# Altium footprint library 2pines.PcbLib: 1 footprints
Each footprint in its own frame and in the unit in brackets; x right, y up, seen from the top. Pads: shape width x height; smd on the part's side, far side on the other; paste and mask are expansions set on the pad; w line width, h text height; cw(c..) or ccw(c..) is an arc to the next point about the centre after c.
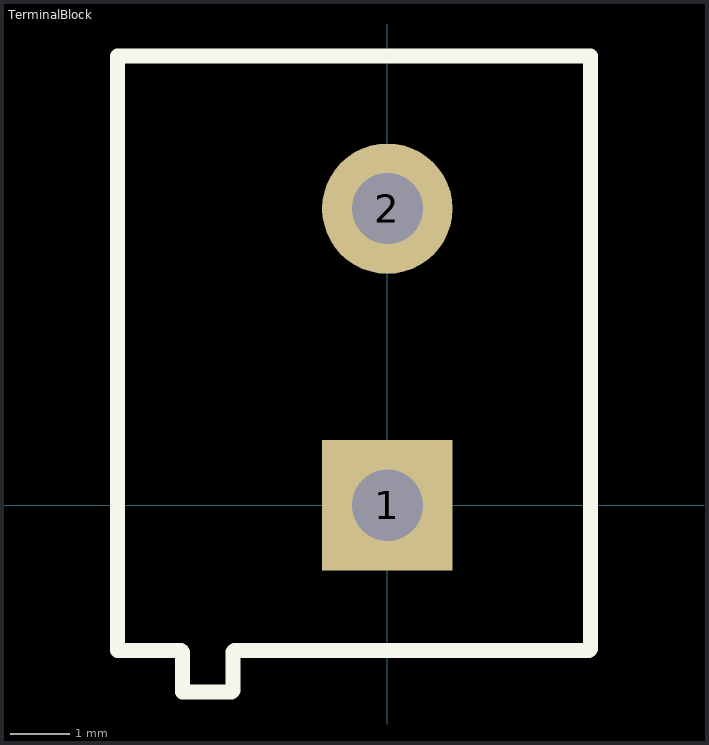
[diagram p0: the footprint, top view; thin cyan lines are the x and y axes]

## TerminalBlock [mm]
height 11
pads (2):
  rect 2.2x2.2 hole 1.2: 1(0,0)
  round 2.2 hole 1.2: 2(0,5)
Top Overlay:
  lines w0.254: -4.55,-2.45 -3.475,-2.45 -3.45,-2.475 -3.45,-3.15 -2.625,-3.15 -2.6,-3.125 -2.6,-2.475 -2.575,-2.45 3.4,-2.45 3.425,-2.425 3.425,7.575 -4.55,7.575 -4.55,-2.45
3D body "User Library-TB2.STEP": height 11, standoff -2.5, extent -4.55,-2.45 3.45,7.55